# Altium footprint library 6028LED.PcbLib: 1 footprints
Each footprint in its own frame and in the unit in brackets; x right, y up, seen from the top. Pads: shape width x height; smd on the part's side, far side on the other; paste and mask are expansions set on the pad; w line width, h text height; cw(c..) or ccw(c..) is an arc to the next point about the centre after c.
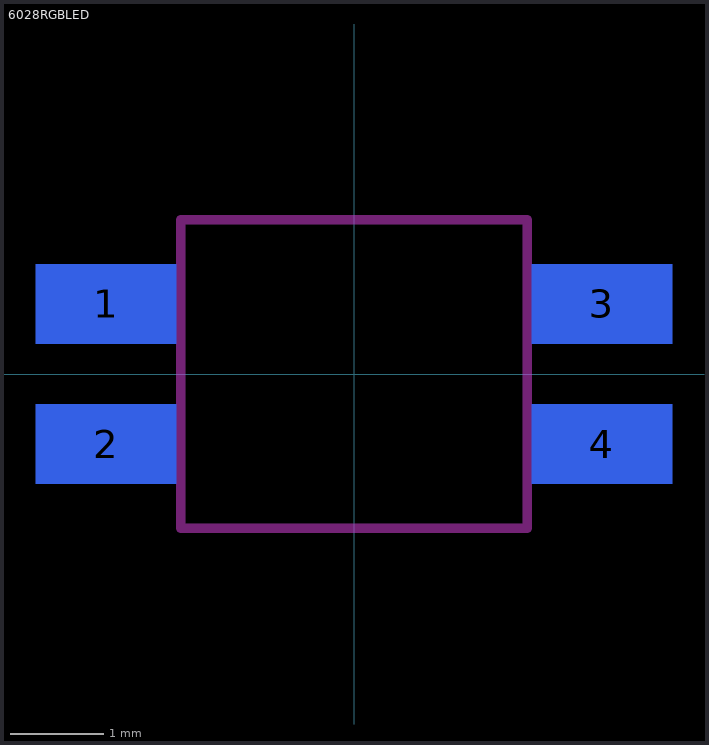
[diagram p0: the footprint, top view; thin cyan lines are the x and y axes]

## 6028RGBLED [mm]
pads (4):
  rect 1.5x0.85 smd far side paste+0 mask+0: 1(-2.65,0.75) 2(-2.65,-0.75) 3(2.65,0.75) 4(2.65,-0.75)
Keep-Out Layer:
  lines w0.1: -1.85,-1.65 1.85,-1.65 1.85,1.65 -1.85,1.65 -1.85,-1.65